# Altium schematic symbol library CAN.SchLib: 1 symbol
Pins are listed as number, name and electrical type; pins without a type are passive.

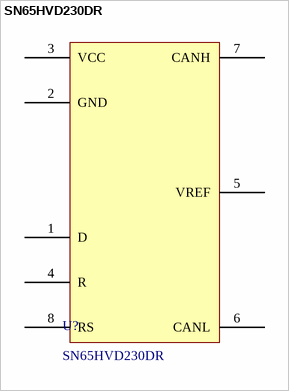
[diagram p0: symbol SN65HVD230DR]

## SN65HVD230DR
designator U?
CAN Interface IC STANDBY MODE; Manufacturer: Texas Instruments; Active Read Current - Max: Active; Data Rate: 1 Mb/s; Number of Drivers: 1; Supply Voltage - Max: 3.6 V; Supply Voltage - Min: 3.1 V; Supplier 1 URL: https://www.mouser.com/ProductDetail/Texas-Instruments/SN65HVD230DR?qs=QViXGNcIEAtifeQR3pYVUQ%3D%3D; Supplier 2 URL: https://www.digikey.com/en/products/detail/texas-instruments/SN65HVD230DR/404367; Supplier 3 URL: https://www.thegioiic.com/sn65hvd230dr-can-transceiver-8-soic; Value: SN65HVD230DR; Number of Receivers: 1; Supplier 1: Mouser; Supplier 1 Part Number: 595-SN65HVD230DR; Supplier 2: Digi-Key; Supplier 2 Part Number: 296-11654-2-ND; Supplier 3: thegioiic; Supplier 3 Part Number: SN65HVD230DR; Manufacturer Part Number: SN65HVD230DR; Mount: SMD/SMT; Operating Temperature Max: + 85 C; Operating Temperature Min: - 40 C; Package / Case: SOIC-8; ComponentLink1Description: Datasheet; ComponentLink1URL: https://www.ti.com/general/docs/suppproductinfo.tsp?distId=26&gotoUrl=https://www.ti.com/lit/gpn/sn65hvd230; Packaging: Tape and Reel; LCSC Part #: C12084
footprint SN65HVD230 (SOIC, 8-Leads, Body 4.91x3.85mm, Pitch 1.27mm, IPC Medium Density)
pins: 1 D, 2 GND, 3 VCC, 4 R, 5 VREF, 6 CANL, 7 CANH, 8 RS